# Altium schematic symbol library Header1X10.SchLib: 1 symbol
Pins are listed as number, name and electrical type; pins without a type are passive.

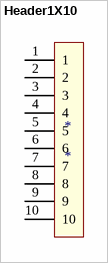
[diagram p0: symbol Header1X10]

## Header1X10
designator *
pins: 1, 2, 3, 4, 5, 6, 7, 8, 9, 10